# Altium footprint library SOP250P700X300-4N.PcbLib: 1 footprints
Each footprint in its own frame and in the unit in brackets; x right, y up, seen from the top. Pads: shape width x height; smd on the part's side, far side on the other; paste and mask are expansions set on the pad; w line width, h text height; cw(c..) or ccw(c..) is an arc to the next point about the centre after c.
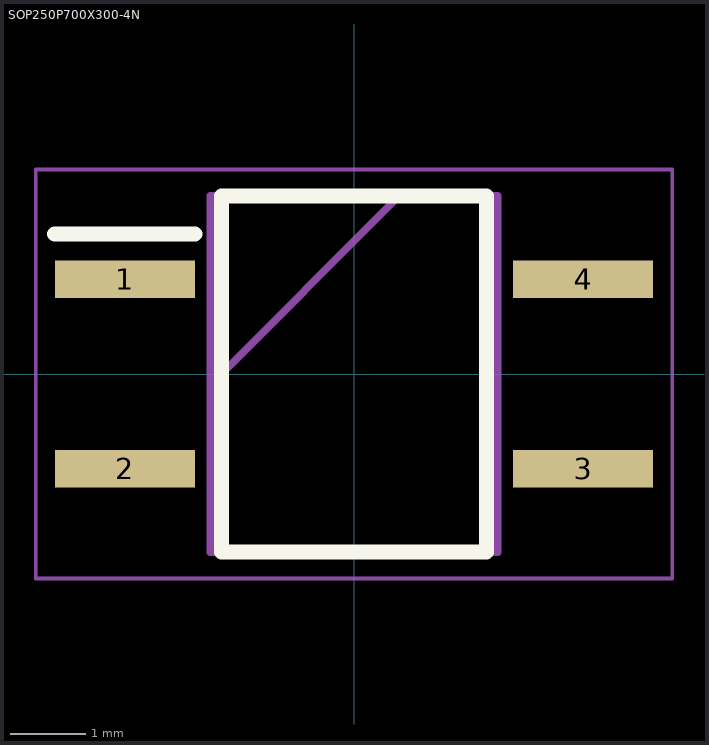
[diagram p0: the footprint, top view; thin cyan lines are the x and y axes]

## SOP250P700X300-4N [mm]
pads (4):
  rect 1.85x0.5 smd: 1(-3.025,1.25) 2(-3.025,-1.25) 3(3.025,-1.25) 4(3.025,1.25)
Top Overlay:
  lines w0.2: -3.95,1.85 -2.1,1.85 ; -1.75,-2.35 1.75,-2.35 1.75,2.35 -1.75,2.35 -1.75,-2.35
Mechanical 15:
  lines w0.1: -1.9,-0.15 0.6,2.35 ; -1.9,-2.35 1.9,-2.35 1.9,2.35 -1.9,2.35 -1.9,-2.35
Mechanical 20:
  lines w0.05: -4.2,-2.7 4.2,-2.7 4.2,2.7 -4.2,2.7 -4.2,-2.7
3D body "RH06-T.stp": height 5.8, standoff -4.65, extent -10,-3.376 10,3.376